# Altium footprint library Library.PcbLib: 124 footprints (part 5 of 8)
Each footprint in its own frame and in the unit in brackets; x right, y up, seen from the top. Pads: shape width x height; smd on the part's side, far side on the other; paste and mask are expansions set on the pad; w line width, h text height; cw(c..) or ccw(c..) is an arc to the next point about the centre after c.
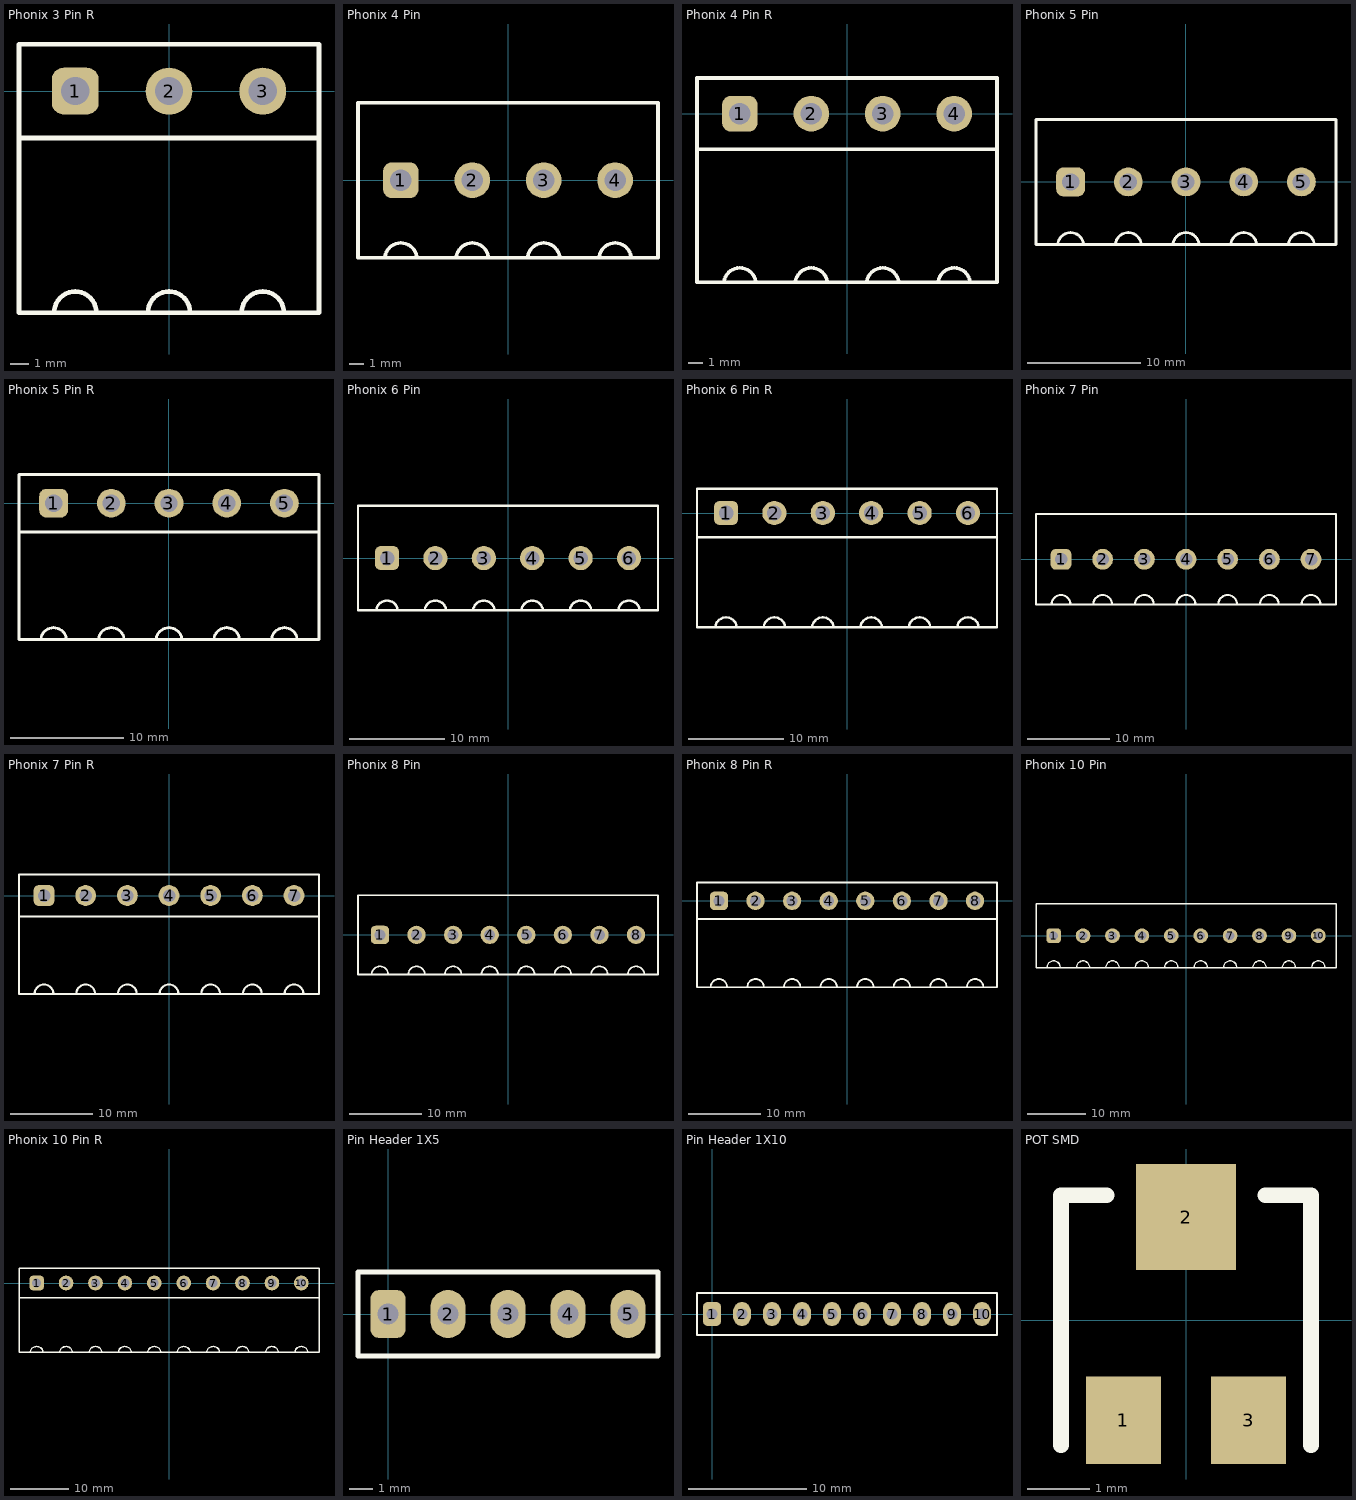
[diagram p4: the footprints below, top view; thin cyan lines are the x and y axes]

## Phonix 3 Pin R [mil] "Phonix Terminal 3 Pin Right"
height 314.96
pads (3):
  rrect50% 100x100 hole 60: 1(-200,0)
  round 100 hole 60: 2(0,0) 3(200,0)
Top Overlay:
  lines w10: -320,-100 320,-100 ; -244.56,-465.97 cw(c-200,-472.44) -155.44,-465.97 ; -44.56,-465.97 cw(c0,-472.44) 44.56,-465.97 ; 155.44,-465.97 cw(c200,-472.44) 244.56,-465.97 ; -320,-472.44 320,-472.44 320,100 -320,100 -320,-472.44

## Phonix 4 Pin [mil] "Phonix Terminal 4 Pin"
height 314.96
pads (4):
  rrect50% 100x100 hole 60: 1(-300,0)
  round 100 hole 60: 2(-100,0) 3(100,0) 4(300,0)
Top Overlay:
  lines w10: -344.56,-214.16 cw(c-300,-220.63) -255.44,-214.16 ; -144.56,-214.16 cw(c-100,-220.63) -55.44,-214.16 ; 55.44,-214.16 cw(c100,-220.63) 144.56,-214.16 ; 255.44,-214.16 cw(c300,-220.63) 344.56,-214.16 ; -420,-216.54 420,-216.54 420,216.54 -420,216.54 -420,-216.54

## Phonix 4 Pin R [mil] "Phonix Terminal 4 Pin Right"
height 314.96
pads (4):
  rrect50% 100x100 hole 60: 1(-300,0)
  round 100 hole 60: 2(-100,0) 3(100,0) 4(300,0)
Top Overlay:
  lines w10: -420,-100 420,-100 ; -344.56,-470.06 cw(c-300,-476.54) -255.44,-470.06 ; -144.56,-470.06 cw(c-100,-476.54) -55.44,-470.06 ; 55.44,-470.06 cw(c100,-476.54) 144.56,-470.06 ; 255.44,-470.06 cw(c300,-476.54) 344.56,-470.06 ; -420,-472.44 -420,100 420,100 420,-472.44 -420,-472.44

## Phonix 5 Pin [mil] "Phonix Terminal 5 Pin"
height 314.96
pads (5):
  rrect50% 100x100 hole 60: 1(-400,0)
  round 100 hole 60: 2(-200,0) 3(0,0) 4(200,0) 5(400,0)
Top Overlay:
  lines w10: -444.56,-214.16 cw(c-400,-220.63) -355.44,-214.16 ; -244.56,-214.16 cw(c-200,-220.63) -155.44,-214.16 ; -44.56,-214.16 cw(c0,-220.63) 44.56,-214.16 ; 155.44,-214.16 cw(c200,-220.63) 244.56,-214.16 ; 355.44,-214.16 cw(c400,-220.63) 444.56,-214.16 ; -520,-216.54 520,-216.54 520,216.54 -520,216.54 -520,-216.54

## Phonix 5 Pin R [mil] "Phonix Terminal 5 Pin Right"
height 314.96
pads (5):
  rrect50% 100x100 hole 60: 1(-400,0)
  round 100 hole 60: 2(-200,0) 3(0,0) 4(200,0) 5(400,0)
Top Overlay:
  lines w10: -520,-100 520,-100 ; -444.56,-470.06 cw(c-400,-476.54) -355.44,-470.06 ; -244.56,-470.06 cw(c-200,-476.54) -155.44,-470.06 ; -44.56,-470.06 cw(c0,-476.54) 44.56,-470.06 ; 155.44,-470.06 cw(c200,-476.54) 244.56,-470.06 ; 355.44,-470.06 cw(c400,-476.54) 444.56,-470.06 ; -520,-472.44 -520,100 520,100 520,-472.44 -520,-472.44

## Phonix 6 Pin [mil] "Phonix Terminal 6 Pin"
height 314.96
pads (6):
  rrect50% 100x100 hole 60: 1(-500,0)
  round 100 hole 60: 2(-300,0) 3(-100,0) 4(100,0) 5(300,0) 6(500,0)
Top Overlay:
  lines w10: -544.56,-214.16 cw(c-500,-220.63) -455.44,-214.16 ; -344.56,-214.16 cw(c-300,-220.63) -255.44,-214.16 ; -144.56,-214.16 cw(c-100,-220.63) -55.44,-214.16 ; 55.44,-214.16 cw(c100,-220.63) 144.56,-214.16 ; 255.44,-214.16 cw(c300,-220.63) 344.56,-214.16 ; 455.44,-214.16 cw(c500,-220.63) 544.56,-214.16 ; -620,-216.54 -620,216.54 620,216.54 620,-216.54 -620,-216.54

## Phonix 6 Pin R [mil] "Phonix Terminal 6 Pin Right"
height 314.96
pads (6):
  rrect50% 100x100 hole 60: 1(-500,0)
  round 100 hole 60: 2(-300,0) 3(-100,0) 4(100,0) 5(300,0) 6(500,0)
Top Overlay:
  lines w10: -620,-100 615,-100 ; -544.56,-470.06 cw(c-500,-476.54) -455.44,-470.06 ; -344.56,-470.06 cw(c-300,-476.54) -255.44,-470.06 ; -144.56,-470.06 cw(c-100,-476.54) -55.44,-470.06 ; 55.44,-470.06 cw(c100,-476.54) 144.56,-470.06 ; 255.44,-470.06 cw(c300,-476.54) 344.56,-470.06 ; 455.44,-470.06 cw(c500,-476.54) 544.56,-470.06 ; -620,-472.44 620,-472.44 620,100 -620,100 -620,-472.44

## Phonix 7 Pin [mil] "Phonix Terminal 8 Pin"
height 314.96
pads (7):
  rrect50% 100x100 hole 60: 1(-600,0)
  round 100 hole 60: 2(-400,0) 3(-200,0) 4(0,0) 5(200,0) 6(400,0) 7(600,0)
Top Overlay:
  lines w10: -644.56,-210.06 cw(c-600,-216.54) -555.44,-210.06 ; -444.56,-210.06 cw(c-400,-216.54) -355.44,-210.06 ; -244.56,-210.06 cw(c-200,-216.54) -155.44,-210.06 ; -44.56,-210.06 cw(c0,-216.54) 44.56,-210.06 ; 155.44,-210.06 cw(c200,-216.54) 244.56,-210.06 ; 355.44,-210.06 cw(c400,-216.54) 444.56,-210.06 ; 555.44,-210.06 cw(c600,-216.54) 644.56,-210.06 ; -720,-216.54 720,-216.54 720,216.54 -720,216.54 -720,-216.54

## Phonix 7 Pin R [mil] "Phonix Terminal 8 Pin Right"
height 314.96
pads (7):
  rrect50% 100x100 hole 60: 1(-600,0)
  round 100 hole 60: 2(-400,0) 3(-200,0) 4(0,0) 5(200,0) 6(400,0) 7(600,0)
Top Overlay:
  lines w10: -720,-100 720,-100 ; -644.56,-465.97 cw(c-600,-472.44) -555.44,-465.97 ; -444.56,-465.97 cw(c-400,-472.44) -355.44,-465.97 ; -244.56,-465.97 cw(c-200,-472.44) -155.44,-465.97 ; -44.56,-465.97 cw(c0,-472.44) 44.56,-465.97 ; 155.44,-465.97 cw(c200,-472.44) 244.56,-465.97 ; 355.44,-465.97 cw(c400,-472.44) 444.56,-465.97 ; 555.44,-465.97 cw(c600,-472.44) 644.56,-465.97 ; -720,-472.44 -720,100 720,100 720,-472.44 -720,-472.44

## Phonix 8 Pin [mil] "Phonix Terminal 8 Pin"
height 314.96
pads (8):
  rrect50% 100x100 hole 60: 1(-700,0)
  round 100 hole 60: 2(-500,0) 3(-300,0) 4(-100,0) 5(100,0) 6(300,0) 7(500,0) 8(700,0)
Top Overlay:
  lines w10: -744.56,-210.06 cw(c-700,-216.54) -655.44,-210.06 ; -544.56,-210.06 cw(c-500,-216.54) -455.44,-210.06 ; -344.56,-210.06 cw(c-300,-216.54) -255.44,-210.06 ; -144.56,-210.06 cw(c-100,-216.54) -55.44,-210.06 ; 55.44,-210.06 cw(c100,-216.54) 144.56,-210.06 ; 255.44,-210.06 cw(c300,-216.54) 344.56,-210.06 ; 455.44,-210.06 cw(c500,-216.54) 544.56,-210.06 ; 655.44,-210.06 cw(c700,-216.54) 744.56,-210.06 ; -820,-216.54 -820,216.54 820,216.54 820,-216.54 -820,-216.54

## Phonix 8 Pin R [mil] "Phonix Terminal 8 Pin Right"
height 314.96
pads (8):
  rrect50% 100x100 hole 60: 1(-700,0)
  round 100 hole 60: 2(-500,0) 3(-300,0) 4(-100,0) 5(100,0) 6(300,0) 7(500,0) 8(700,0)
Top Overlay:
  lines w10: -820,-100 820,-100 ; -744.56,-465.97 cw(c-700,-472.44) -655.44,-465.97 ; -544.56,-465.97 cw(c-500,-472.44) -455.44,-465.97 ; -344.56,-465.97 cw(c-300,-472.44) -255.44,-465.97 ; -144.56,-465.97 cw(c-100,-472.44) -55.44,-465.97 ; 55.44,-465.97 cw(c100,-472.44) 144.56,-465.97 ; 255.44,-465.97 cw(c300,-472.44) 344.56,-465.97 ; 455.44,-465.97 cw(c500,-472.44) 544.56,-465.97 ; 655.44,-465.97 cw(c700,-472.44) 744.56,-465.97 ; -820,-472.44 -820,100 820,100 820,-472.44 -820,-472.44

## Phonix 10 Pin [mil] "Phonix Terminal 10 Pin"
height 314.96
pads (10):
  rrect50% 100x100 hole 60: 1(-900,0)
  round 100 hole 60: 2(-700,0) 3(-500,0) 4(-300,0) 5(-100,0) 6(100,0) 7(300,0) 8(500,0) 9(700,0) 10(900,0)
Top Overlay:
  lines w10: -944.56,-210.06 cw(c-900,-216.54) -855.44,-210.06 ; -744.56,-210.06 cw(c-700,-216.54) -655.44,-210.06 ; -544.56,-210.06 cw(c-500,-216.54) -455.44,-210.06 ; -344.56,-210.06 cw(c-300,-216.54) -255.44,-210.06 ; -144.56,-210.06 cw(c-100,-216.54) -55.44,-210.06 ; 55.44,-210.06 cw(c100,-216.54) 144.56,-210.06 ; 255.44,-210.06 cw(c300,-216.54) 344.56,-210.06 ; 455.44,-210.06 cw(c500,-216.54) 544.56,-210.06 ; 655.44,-210.06 cw(c700,-216.54) 744.56,-210.06 ; 855.44,-210.06 cw(c900,-216.54) 944.56,-210.06 ; -1020,-216.54 -1020,216.54 1020,216.54 1020,-216.54 -1020,-216.54

## Phonix 10 Pin R [mil] "Phonix Terminal 10 Pin Right"
height 314.96
pads (10):
  rrect50% 100x100 hole 60: 1(-900,0)
  round 100 hole 60: 2(-700,0) 3(-500,0) 4(-300,0) 5(-100,0) 6(100,0) 7(300,0) 8(500,0) 9(700,0) 10(900,0)
Top Overlay:
  lines w10: -1020,-100 1020,-100 ; -944.56,-470.06 cw(c-900,-476.54) -855.44,-470.06 ; -744.56,-470.06 cw(c-700,-476.54) -655.44,-470.06 ; -544.56,-470.06 cw(c-500,-476.54) -455.44,-470.06 ; -344.56,-470.06 cw(c-300,-476.54) -255.44,-470.06 ; -144.56,-470.06 cw(c-100,-476.54) -55.44,-470.06 ; 55.44,-470.06 cw(c100,-476.54) 144.56,-470.06 ; 255.44,-470.06 cw(c300,-476.54) 344.56,-470.06 ; 455.44,-470.06 cw(c500,-476.54) 544.56,-470.06 ; 655.44,-470.06 cw(c700,-476.54) 744.56,-470.06 ; 855.44,-470.06 cw(c900,-476.54) 944.56,-470.06 ; -1020,-472.44 1020,-472.44 1020,100 -1020,100 -1020,-472.44

## Pin Header 1X5 [mm] "Connector; Header; 5 Position"
height 10
pads (5):
  rrect50% 1.5x2.032 hole 0.9: 1(0,0)
  oval 1.5x2.032 hole 0.9: 2(2.54,0) 3(5.08,0) 4(7.62,0) 5(10.16,0)
Top Overlay:
  lines w0.2: -1.27,-1.778 -1.27,1.778 11.43,1.778 11.43,-1.778 -1.27,-1.778

## Pin Header 1X10 [mm] "Connector; Header; 10 Position"
height 10
pads (10):
  rrect50% 1.5x2.032 hole 0.9: 1(0,0)
  oval 1.5x2.032 hole 0.9: 2(2.54,0) 3(5.08,0) 4(7.62,0) 5(10.16,0) 6(12.7,0) 7(15.24,0) 8(17.78,0) 9(20.32,0) 10(22.86,0)
Top Overlay:
  lines w0.2: -1.27,-1.778 -1.27,1.778 24.13,1.778 24.13,-1.778 -1.27,-1.778

## POT SMD [mm]
height 1.62
pads (3):
  rect 1.2x1.4 smd: 1(-1,-1.6) 3(1,-1.6)
  rect 1.6x1.7 smd: 2(0,1.65)
Top Overlay:
  lines w0.254: -2,-2 -2,2 -1.27,2 ; 1.27,2 2,2 2,-2